# EAGLE library part MCP33131D-10-E/MS (library VNA)
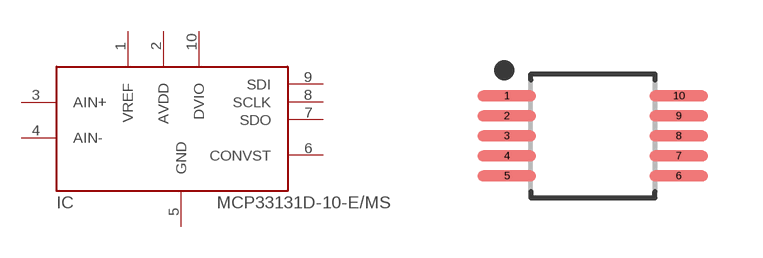
[diagram p4: symbol with the pads of SOP50P490X110-10N; footprint SOP50P490X110-10N]

Designator prefix IC

## MCP33131D-10-E/MS  [SOP50P490X110-10N]
1  VREF
2  AVDD
3  AIN+
4  AIN-
5  GND
6  CONVST
7  SDO
8  SCLK
9  SDI
10  DVIO

## Footprint SOP50P490X110-10N (pad centres in mm)
10-SOP, 0.50 mm pitch, 4.90 mm span, 3.00 X 3.00 X 1.10 mm body 10-pin SOP package with 0.50 mm pitch, 4.90 mm span with body size 3.00 X 3.00 X 1.10 mm
smd 1.471 x 0.28: 1 -2.15,1; 2 -2.15,0.5; 3 -2.15,0; 4 -2.15,-0.5; 5 -2.15,-1; 6 2.15,-1; 7 2.15,-0.5; 8 2.15,0; 9 2.15,0.5; 10 2.15,1